# Altium integrated library TI Amplifiers and Linear Haptic Driver.IntLib: 5 symbols
Pins are listed as number, name and electrical type; pins without a type are passive.

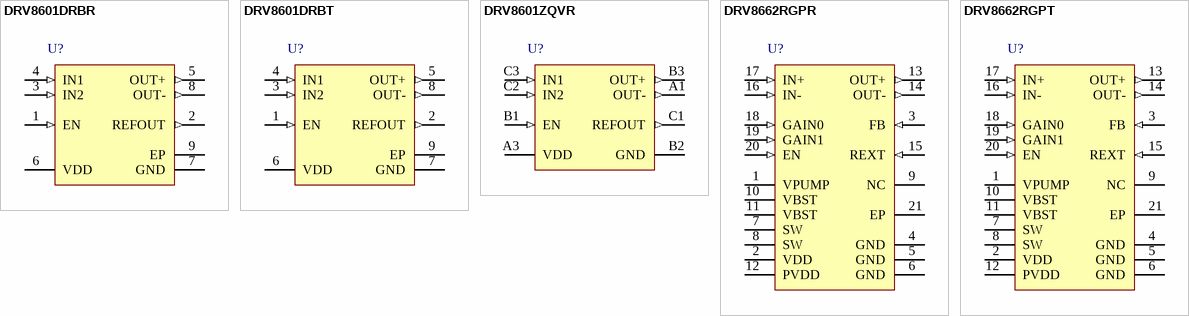
[diagram p0: symbols DRV8601DRBR to DRV8662RGPT]

## DRV8601DRBR
designator U?
400 mA Fully Differential Motor Driver with 1.8-V Input Logic Thresholds, -40 to 85 degC, 8-pin SON (DRB8), Green (RoHS & no Sb/Br); Manufacturer: Texas Instruments; PartNumber: DRV8601DRBR; Haptic Actuator Type: ERM, LRA; High-Level Input Voltage(Min)(V): 1.15; Input Signal: PWM, Analog; Iq(Typ)(mA): 1.7; Low-Level Input Voltage(Max)(V): 0.5; Rating: Catalog; Shutdown Current(Typ)(uA): 0.01; Startup Time(ms): 0.1; SubFamily: Motor Haptic Driver; Vs(Max)(V): 5.5; Vs(Min)(V): 2.5; DatasheetVersion: SLOS629B; PackageVersion: 4203482-2/K, 06/2012; PackageReference: DRB8-1750X1500TP; PackageDescription: 8-Pin Plastic Small Outline, Body 3 x 3 mm, Pitch 0.65 mm; Supplier 1: Digi-Key; Supplier Part Number 1: 296-28765-2-ND; Supplier 2: Digi-Key; Supplier Part Number 2: 296-28765-1-ND; Supplier 3: Digi-Key; Supplier Part Number 3: 296-28765-6-ND; Supplier 4: Newark; Supplier Part Number 4: 48T4137; Supplier 5: Mouser; Supplier Part Number 5: 595-DRV8601DRBR; Eco-Plan: Green (RoHS & no Sb/Br); Mounting Technology: Surface Mount; ComponentLink1Description: Manufacturer URL; ComponentLink1URL: http://www.ti.com/; ComponentLink2Description: Datasheet; ComponentLink2URL: http://www.ti.com/general/docs/lit/getliterature.tsp?genericPartNumber=DRV8601&fileType=pdf; ComponentLink3Description: Package Specification; ComponentLink3URL: http://www.ti.com/litv/pdf/mpds118h
footprint TI-DRB8-1750X1500TP_V (SON, 8-Leads, Body 3x3mm, Pitch 0.65mm, Thermal Pad 1.50 x 3.8mm)
pins: 1 EN (in) "Chip enable", 2 REFOUT (out) "Reference voltage output", 3 IN2 (in) "Input to driver", 4 IN1 (in) "Input to driver", 5 OUT+ (out) "Positive output", 6 VDD (power) "Supply voltage", 7 GND (power) "Ground", 8 OUT- (out) "Negative output", 9 EP "Exposed Pad"

## DRV8601DRBT
designator U?
400 mA Fully Differential Motor Driver with 1.8-V Input Logic Thresholds, -40 to 85 degC, 8-pin SON (DRB8), Green (RoHS & no Sb/Br); Manufacturer: Texas Instruments; PartNumber: DRV8601DRBT; Haptic Actuator Type: ERM, LRA; High-Level Input Voltage(Min)(V): 1.15; Input Signal: PWM, Analog; Iq(Typ)(mA): 1.7; Low-Level Input Voltage(Max)(V): 0.5; Rating: Catalog; Shutdown Current(Typ)(uA): 0.01; Startup Time(ms): 0.1; SubFamily: Motor Haptic Driver; Vs(Max)(V): 5.5; Vs(Min)(V): 2.5; DatasheetVersion: SLOS629B; PackageVersion: 4203482-2/K, 06/2012; PackageReference: DRB8-1750X1500TP; PackageDescription: 8-Pin Plastic Small Outline, Body 3 x 3 mm, Pitch 0.65 mm; Supplier 1: Digi-Key; Supplier Part Number 1: DRV8601DRBT-ND; Supplier 2: Newark; Supplier Part Number 2: 48T4138; Supplier 3: Mouser; Supplier Part Number 3: 595-DRV8601DRBT; Eco-Plan: Green (RoHS & no Sb/Br); Mounting Technology: Surface Mount; ComponentLink1Description: Manufacturer URL; ComponentLink1URL: http://www.ti.com/; ComponentLink2Description: Datasheet; ComponentLink2URL: http://www.ti.com/general/docs/lit/getliterature.tsp?genericPartNumber=DRV8601&fileType=pdf; ComponentLink3Description: Package Specification; ComponentLink3URL: http://www.ti.com/litv/pdf/mpds118h
footprint TI-DRB8-1750X1500TP_V (SON, 8-Leads, Body 3x3mm, Pitch 0.65mm, Thermal Pad 1.50 x 3.8mm)
pins: 1 EN (in) "Chip enable", 2 REFOUT (out) "Reference voltage output", 3 IN2 (in) "Input to driver", 4 IN1 (in) "Input to driver", 5 OUT+ (out) "Positive output", 6 VDD (power) "Supply voltage", 7 GND (power) "Ground", 8 OUT- (out) "Negative output", 9 EP "Exposed Pad"

## DRV8601ZQVR
designator U?
400 mA Fully Differential Motor Driver with 1.8-V Input Logic Thresholds, -40 to 85 degC, 8-pin BGA (ZQV8), Green (RoHS & no Sb/Br); Manufacturer: Texas Instruments; PartNumber: DRV8601ZQVR; Haptic Actuator Type: ERM, LRA; High-Level Input Voltage(Min)(V): 1.15; Input Signal: PWM, Analog; Iq(Typ)(mA): 1.7; Low-Level Input Voltage(Max)(V): 0.5; Rating: Catalog; Shutdown Current(Typ)(uA): 0.01; Startup Time(ms): 0.1; SubFamily: Motor Haptic Driver; Vs(Max)(V): 5.5; Vs(Min)(V): 2.5; DatasheetVersion: SLOS629B; PackageVersion: 4205131/A, 05/2003; PackageReference: ZQV8; PackageDescription: 8-Ball Plastic Grid Array, Body 2 x 2 mm, Pitch 0.5 mm; Supplier 1: Digi-Key; Supplier Part Number 1: 296-27770-2-ND; Supplier 2: Digi-Key; Supplier Part Number 2: 296-27770-1-ND; Supplier 3: Digi-Key; Supplier Part Number 3: 296-27770-6-ND; Supplier 4: Farnell; Supplier Part Number 4: 1862575; Supplier 5: Newark; Supplier Part Number 5: 91R0762; Supplier 6: Mouser; Supplier Part Number 6: 595-DRV8601ZQVR; Eco-Plan: Green (RoHS & no Sb/Br); Mounting Technology: Surface Mount; Code_JEDEC: MO-225; ComponentLink1Description: Manufacturer URL; ComponentLink1URL: http://www.ti.com/; ComponentLink2Description: Datasheet; ComponentLink2URL: http://www.ti.com/general/docs/lit/getliterature.tsp?genericPartNumber=DRV8601&fileType=pdf; ComponentLink3Description: Package Specification; ComponentLink3URL: http://www.ti.com/litv/pdf/mpbg362
footprint TI-ZQV8 (BGA, 8-Balls, Body 2x2mm, Pitch 0.5mm)
pins: A1 OUT- (out) "Negative output", A3 VDD (power) "Supply voltage", B1 EN (in) "Chip enable", B2 GND (power) "Ground", B3 OUT+ (out) "Positive output", C1 REFOUT (out) "Reference voltage output", C2 IN2 (in) "Input to driver", C3 IN1 (in) "Input to driver"

## DRV8662RGPR
designator U?
Piezo Haptic Driver with Integrated Boost Converter, -40 to 70 degC, 20-pin QFN (RGP20), Green (RoHS & no Sb/Br); Manufacturer: Texas Instruments; PartNumber: DRV8662RGPR; High-Level Input Voltage(Min)(V): 1.4; Input Signal: PWM, Analog; Iq(Typ)(mA): 5; Low-Level Input Voltage(Max)(V): 0.75; Startup Time(ms): 1.5; DatasheetVersion: SLOS709A; PackageVersion: 4203555/G, 07/2011; PackageReference: RGP20-2700X2700TP; PackageDescription: 20-Pin Plastic Quad Flatpack No-Pin, 4 x 4 mm Body, 0.5 mm Pitch; Supplier 1: Digi-Key; Supplier Part Number 1: 296-29164-2-ND; Supplier 2: Digi-Key; Supplier Part Number 2: 296-29164-1-ND; Supplier 3: Digi-Key; Supplier Part Number 3: 296-29164-6-ND; Supplier 4: Mouser; Supplier Part Number 4: 595-DRV8662RGPR; Eco-Plan: Green (RoHS & no Sb/Br); Haptic Actuator Type: Piezo; SubFamily: Piezo Haptic Driver; Mounting Technology: Surface Mount; Code_JEDEC: MO-220; ComponentLink1Description: Manufacturer URL; ComponentLink1URL: http://www.ti.com/; ComponentLink2Description: Datasheet; ComponentLink2URL: http://www.ti.com/lit/ds/symlink/drv8662.pdf; ComponentLink3Description: Package Specification; ComponentLink3URL: http://www.ti.com/litv/pdf/mpqf135c
footprint TI-RGP20-2700X2700TP_V (QFN, 20-Leads, Body 4x4mm, Pitch 0.5mm, Thermal Pad 2.7x2.7mm)
pins: 1 VPUMP (power) "Internal Charge-pump voltage", 2 VDD (power) "Power supply (connect to battery)", 3 FB (in) "Boost feedback", 4 GND (power) "Ground", 5 GND (power) "Ground", 6 GND (power) "Ground", 7 SW (power) "Internal boost switch pin", 8 SW (power) "Internal boost switch pin", 9 NC, 10 VBST (power) "Boost output voltage", 11 VBST (power) "Boost output voltage", 12 PVDD (power) "Amplifier supply voltage", 13 OUT+ (out) "Non-inverting output", 14 OUT- (out) "Inverting output", 15 REXT (in) "Resistor to ground, sets boost current limit", 16 IN- (in) "Inverting input", 17 IN+ (in) "Non-inverting input", 18 GAIN0 (in) "Gain programming pin - LSB", 19 GAIN1 (in) "Gain programming pin - MSB", 20 EN (in) "Chip enable", 21 EP (power)

## DRV8662RGPT
designator U?
Piezo Haptic Driver with Integrated Boost Converter, -40 to 70 degC, 20-pin QFN (RGP20), Green (RoHS & no Sb/Br); Manufacturer: Texas Instruments; PartNumber: DRV8662RGPT; High-Level Input Voltage(Min)(V): 1.4; Input Signal: PWM, Analog; Iq(Typ)(mA): 5; Low-Level Input Voltage(Max)(V): 0.75; Startup Time(ms): 1.5; DatasheetVersion: SLOS709A; PackageVersion: 4203555/G, 07/2011; PackageReference: RGP20-2700X2700TP; PackageDescription: 20-Pin Plastic Quad Flatpack No-Pin, 4 x 4 mm Body, 0.5 mm Pitch; Supplier 1: Digi-Key; Supplier Part Number 1: 296-29163-2-ND; Supplier 2: Digi-Key; Supplier Part Number 2: 296-29163-1-ND; Supplier 3: Digi-Key; Supplier Part Number 3: 296-29163-6-ND; Supplier 4: Farnell; Supplier Part Number 4: 2211363; Supplier 5: Farnell; Supplier Part Number 5: 2369464; Supplier 6: Newark; Supplier Part Number 6: 53T5110; Supplier 7: Newark; Supplier Part Number 7: 46W1545; Supplier 8: Mouser; Supplier Part Number 8: 595-DRV8662RGPT; Eco-Plan: Green (RoHS & no Sb/Br); Haptic Actuator Type: Piezo; SubFamily: Piezo Haptic Driver; Mounting Technology: Surface Mount; Code_JEDEC: MO-220; ComponentLink1Description: Manufacturer URL; ComponentLink1URL: http://www.ti.com/; ComponentLink2Description: Datasheet; ComponentLink2URL: http://www.ti.com/lit/ds/symlink/drv8662.pdf; ComponentLink3Description: Package Specification; ComponentLink3URL: http://www.ti.com/litv/pdf/mpqf135c
footprint TI-RGP20-2700X2700TP_V (QFN, 20-Leads, Body 4x4mm, Pitch 0.5mm, Thermal Pad 2.7x2.7mm)
pins: 1 VPUMP (power) "Internal Charge-pump voltage", 2 VDD (power) "Power supply (connect to battery)", 3 FB (in) "Boost feedback", 4 GND (power) "Ground", 5 GND (power) "Ground", 6 GND (power) "Ground", 7 SW (power) "Internal boost switch pin", 8 SW (power) "Internal boost switch pin", 9 NC, 10 VBST (power) "Boost output voltage", 11 VBST (power) "Boost output voltage", 12 PVDD (power) "Amplifier supply voltage", 13 OUT+ (out) "Non-inverting output", 14 OUT- (out) "Inverting output", 15 REXT (in) "Resistor to ground, sets boost current limit", 16 IN- (in) "Inverting input", 17 IN+ (in) "Non-inverting input", 18 GAIN0 (in) "Gain programming pin - LSB", 19 GAIN1 (in) "Gain programming pin - MSB", 20 EN (in) "Chip enable", 21 EP (power)